# Altium footprint library PCB - THT - DS1130-02-S8B8P.PCBLIB: 1 footprints
Each footprint in its own frame and in the unit in brackets; x right, y up, seen from the top. Pads: shape width x height; smd on the part's side, far side on the other; paste and mask are expansions set on the pad; w line width, h text height; cw(c..) or ccw(c..) is an arc to the next point about the centre after c.
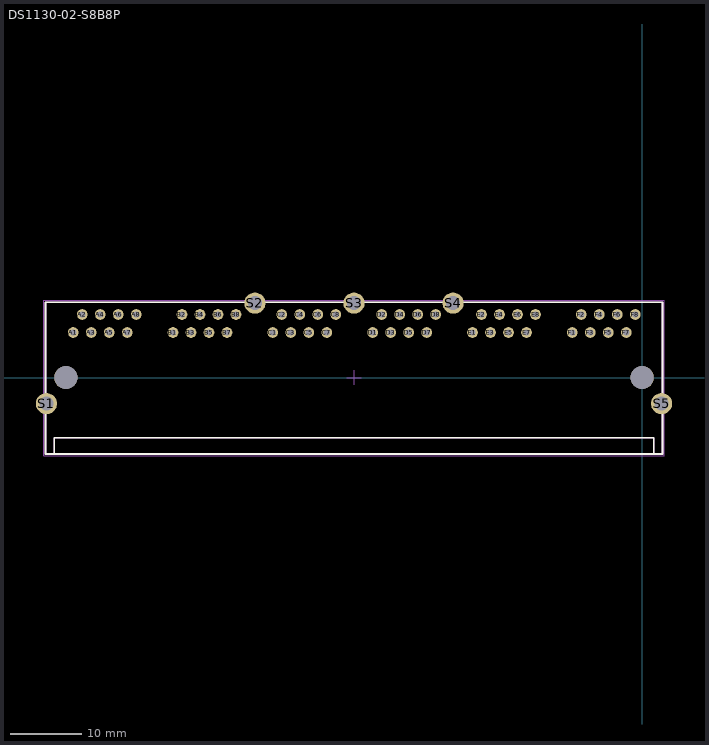
[diagram p0: the footprint, top view; thin cyan lines are the x and y axes]

## DS1130-02-S8B8P [mm] "6x RJ45"
height 13.5
pads (55):
  round 1.5 hole 0.9: A1(-80.249,6.35) A2(-78.979,8.89) A3(-77.709,6.35) A4(-76.439,8.89) A5(-75.169,6.35) A6(-73.899,8.89) A7(-72.629,6.35) A8(-71.359,8.89) B1(-66.17,6.35) B2(-64.9,8.89) B3(-63.63,6.35) B4(-62.36,8.89) B5(-61.09,6.35) B6(-59.82,8.89) B7(-58.55,6.35) B8(-57.28,8.89) C1(-52.09,6.35) C2(-50.82,8.89) C3(-49.55,6.35) C4(-48.28,8.89) C5(-47.01,6.35) C6(-45.74,8.89) C7(-44.47,6.35) C8(-43.2,8.89) D1(-38.011,6.35) D2(-36.741,8.89) D3(-35.471,6.35) D4(-34.201,8.89) D5(-32.931,6.35) D6(-31.661,8.89) D7(-30.391,6.35) D8(-29.121,8.89) E1(-23.929,6.35) E2(-22.659,8.89) E3(-21.389,6.35) E4(-20.119,8.89) E5(-18.849,6.35) E6(-17.579,8.89) E7(-16.309,6.35) E8(-15.039,8.89) F1(-9.85,6.35) F2(-8.58,8.89) F3(-7.31,6.35) F4(-6.04,8.89) F5(-4.77,6.35) F6(-3.5,8.89) F7(-2.23,6.35) F8(-0.96,8.89)
  round 3 hole 2: S1(-84.015,-3.68) S2(-54.61,10.5) S3(-40.64,10.5) S4(-26.67,10.5) S5(2.735,-3.68)
  round 3.25 hole 3.25 unplated: ""(-81.28,0) ""(0,0)
Top Overlay:
  lines w0.254: -82.91,-10.751 -82.91,-8.501 1.63,-8.501 1.63,-10.751 ; -84.14,-10.771 2.86,-10.771 2.86,10.629 -84.14,10.629 -84.14,-10.771
Top Assembly:
  lines w0.254: -82.91,-10.751 -82.91,-8.501 1.63,-8.501 1.63,-10.751 ; -84.14,-10.771 2.86,-10.771 2.86,10.629 -84.14,10.629 -84.14,-10.771
Top Courtyard:
  lines w0.05: -84.4,-11 3.1,-11 3.1,10.9 -84.4,10.9 -84.4,-11
Top Designator:
  text ".Designator" at -46.7,0.1 h1.02
Top Component Center:
  lines w0.15: -41.64,0 -39.64,0 ; -40.64,-1 -40.64,1
Mechanical 15:
  lines w0.003: -40.64,0.155 -40.64,0.156
3D body "DS1130-02-S8B8P.STEP": height 13.95, standoff -4, extent -84.189,-10.67 2.909,10.62